# EAGLE library part 1-2314820-0 (library ruark2)
10 Position Receptacle Connector 0.079" (2.00mm) Through Hole Gold
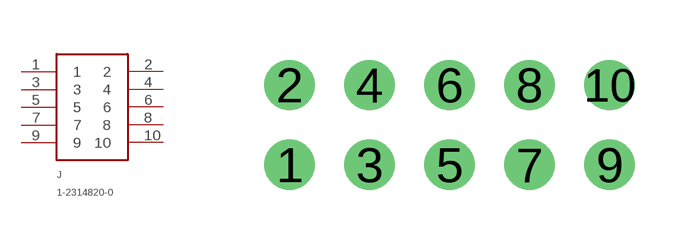
[diagram p168: symbol with the pads of 5X2_2MM; footprint 5X2_2MM]

Designator prefix J

## 1-2314820-0 (PARTNO: 17-1-2314820-0-ND)  [5X2_2MM]
1  1
2  2
3  3
4  4
5  5
6  6
7  7
8  8
9  9
10  10

## Footprint 5X2_2MM (pad centres in mm)
drill 0.75: 1 -4,-1; 2 -4,1; 3 -2,-1; 4 -2,1; 5 0,-1; 6 0,1; 7 2,-1; 8 2,1; 9 4,-1; 10 4,1